# Altium schematic symbol library C8051.SchLib: 1 symbol
Pins are listed as number, name and electrical type; pins without a type are passive.

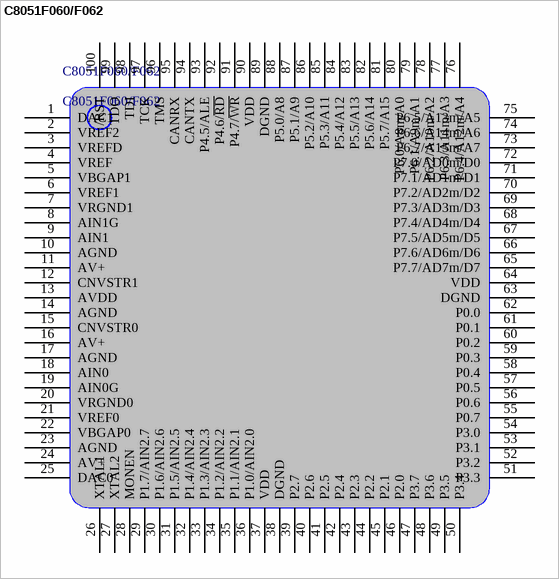
[diagram p0: symbol C8051F060/F062]

## C8051F060/F062
designator C8051F060/F062
footprint C8051F060 TQFP-100 (Footprint not found)
pins: 1 DAC1, 2 VREF2, 3 VREFD, 4 VREF, 5 VBGAP1, 6 VREF1, 7 VRGND1, 8 AIN1G, 9 AIN1, 10 AGND, 11 AV+, 12 CNVSTR1, 13 AVDD, 14 AGND, 15 CNVSTR0, 16 AV+, 17 AGND, 18 AIN0, 19 AIN0G, 20 VRGND0, 21 VREF0, 22 VBGAP0, 23 AGND, 24 AV+, 25 DAC0, 26 XTAL1, 27 XTAL2, 28 MONEN, 29 P1.7/AIN2.7, 30 P1.6/AIN2.6, 31 P1.5/AIN2.5, 32 P1.4/AIN2.4, 33 P1.3/AIN2.3, 34 P1.2/AIN2.2, 35 P1.1/AIN2.1, 36 P1.0/AIN2.0, 37 VDD, 38 DGND, 39 P2.7, 40 P2.6, 41 P2.5, 42 P2.4, 43 P2.3, 44 P2.2, 45 P2.1, 46 P2.0, 47 P3.7, 48 P3.6, 49 P3.5, 50 P3.4, 51 P3.3, 52 P3.2, 53 P3.1, 54 P3.0, 55 P0.7, 56 P0.6, 57 P0.5, 58 P0.4, 59 P0.3, 60 P0.2, 61 P0.1, 62 P0.0, 63 DGND, 64 VDD, 65 P7.7/AD7m/D7, 66 P7.6/AD6m/D6, 67 P7.5/AD5m/D5, 68 P7.4/AD4m/D4, 69 P7.3/AD3m/D3, 70 P7.2/AD2m/D2, 71 P7.1/AD1m/D1, 72 P7.0/AD0m/D0, 73 P6.7/A15m/A7, 74 P6.6/A14m/A6, 75 P6.5/A13m/A5, 76 P6.4/A12m/A4, 77 P6.3/A11m/A3, 78 P6.2/A10m/A2, 79 P6.1/A9m/A1, 80 P6.0/A8m/A0, 81 P5.7/A15, 82 P5.6/A14, 83 P5.5/A13, 84 P5.4/A12, 85 P5.3/A11, 86 P5.2/A10, 87 P5.1/A9, 88 P5.0/A8, 89 DGND, 90 VDD, 91 P4.7/~{WR}, 92 P4.6/~{RD}, 93 P4.5/ALE, 94 CANTX, 95 CANRX, 96 TMS, 97 TCK, 98 TDI, 99 TDO, 100 /RST